# Altium footprint library RES1206.PcbLib: 1 footprints
Each footprint in its own frame and in the unit in brackets; x right, y up, seen from the top. Pads: shape width x height; smd on the part's side, far side on the other; paste and mask are expansions set on the pad; w line width, h text height; cw(c..) or ccw(c..) is an arc to the next point about the centre after c.
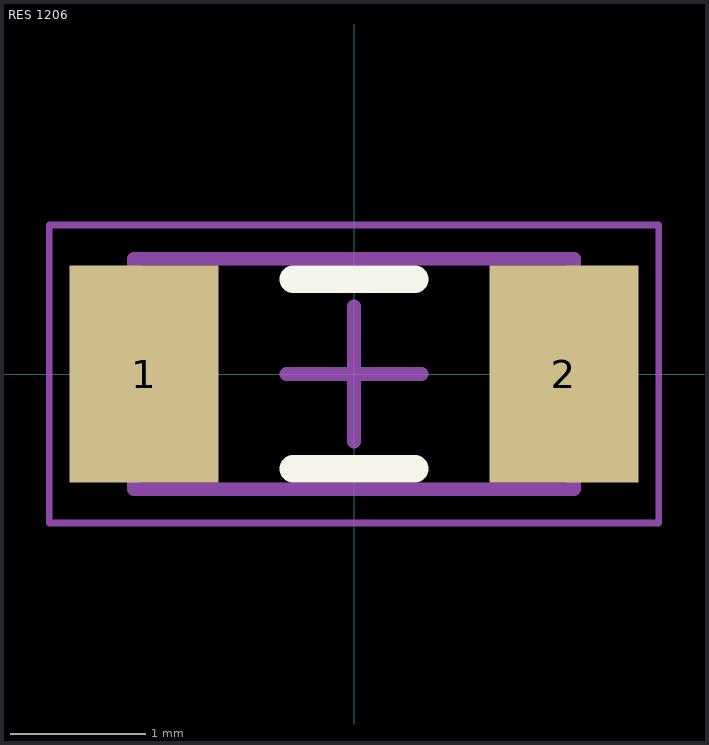
[diagram p0: the footprint, top view; thin cyan lines are the x and y axes]

## RES 1206 [mm] "Chip Resistor, 2-Leads, Body 3.10x1.58mm, IPC Medium Density"
height 0.65
pads (2):
  rect 1.1x1.6 smd: 1(-1.55,0) 2(1.55,0)
Top Overlay:
  lines w0.2: -0.45,-0.7 0.45,-0.7 ; -0.45,0.7 0.45,0.7
Mechanical 13:
  lines w0.1: -1.625,-0.85 1.625,-0.85 1.625,0.85 -1.625,0.85 -1.625,-0.85
Mechanical 15:
  lines w0.05: -2.25,-1.1 2.25,-1.1 2.25,1.1 -2.25,1.1 -2.25,-1.1
  lines w0.1: -0.5,0 0.5,0 ; 0,-0.5 0,0.5
3D body "RES 1206.step": height 0.65, standoff 0, extent -1.625,-0.85 1.625,0.85